# EAGLE library part LCD (library 1dah)
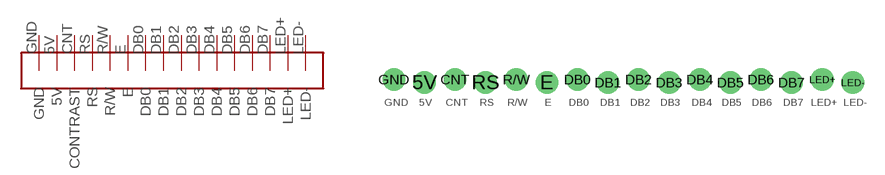
[diagram p50: symbol with the pads of LCD; footprint LCD]

Designator prefix -

## LCD  [LCD]
5V  5V
CNT  CONTRAST
DB0  DB0
DB1  DB1
DB2  DB2
DB3  DB3
DB4  DB4
DB5  DB5
DB6  DB6
DB7  DB7
E  E
GND  GND
LED+  LED+
LED-  LED-
R/W  R/W
RS  RS

## Footprint LCD (pad centres in mm)
drill 1.016 pad 1.88: 5V 2.54,-0.127; CNT 5.08,0.127; DB0 15.24,0.127; DB1 17.78,-0.127; DB2 20.32,0.127; DB3 22.86,-0.127; DB4 25.4,0.127; DB5 27.94,-0.127; DB6 30.48,0.127; DB7 33.02,-0.127; E 12.7,-0.127; GND 0,0.127; LED+ 35.56,0.127; LED- 38.1,-0.127; R/W 10.16,0.127; RS 7.62,-0.127